# Altium footprint library RESC215X140X65L37N.PcbLib: 1 footprints
Each footprint in its own frame and in the unit in brackets; x right, y up, seen from the top. Pads: shape width x height; smd on the part's side, far side on the other; paste and mask are expansions set on the pad; w line width, h text height; cw(c..) or ccw(c..) is an arc to the next point about the centre after c.
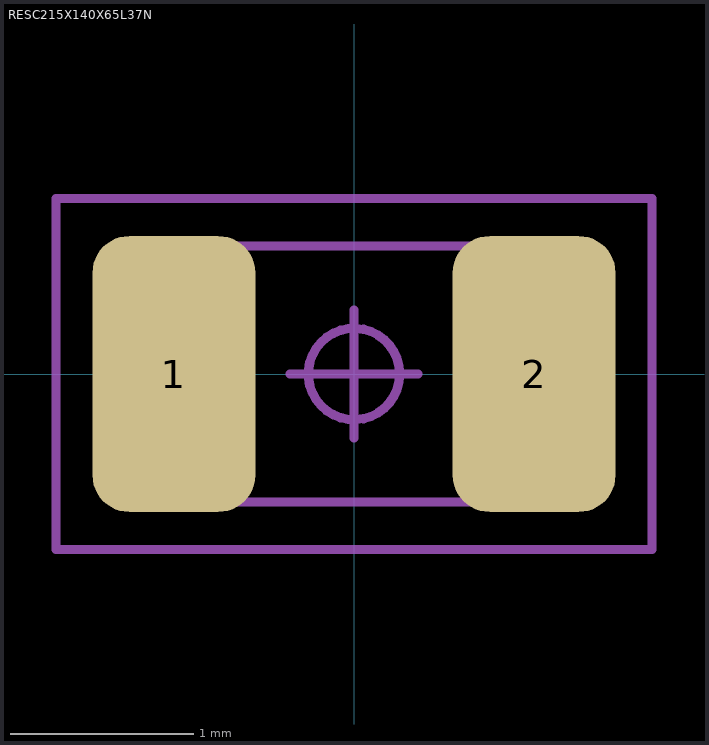
[diagram p0: the footprint, top view; thin cyan lines are the x and y axes]

## RESC215X140X65L37N [mm] "Resistor, Chip; 2.15 mm L X 1.40 mm W X 0.65 mm H body"
height 0.65
pads (2):
  rrect45% 0.89x1.51 smd mask+0.05: 1(-0.985,0) 2(0.985,0)
Mechanical 11:
  lines w0.05: -1.08,-0.7 -1.08,0.7 1.08,0.7 1.08,-0.7 -1.08,-0.7
Mechanical 15:
  circle w0.05: c0,0 r0.25
  lines w0.05: -0.35,0 0.35,0 ; 0,-0.35 0,0.35 ; -1.63,-0.96 -1.63,0.96 1.63,0.96 1.63,-0.96 -1.63,-0.96
3D body "RESC215X140X65L37.STEP": height 0.65, standoff 0, extent -1.075,-0.7 1.075,0.7